# Altium footprint library new-castom-case.PcbLib: 4 footprints
Each footprint in its own frame and in the unit in brackets; x right, y up, seen from the top. Pads: shape width x height; smd on the part's side, far side on the other; paste and mask are expansions set on the pad; w line width, h text height; cw(c..) or ccw(c..) is an arc to the next point about the centre after c.
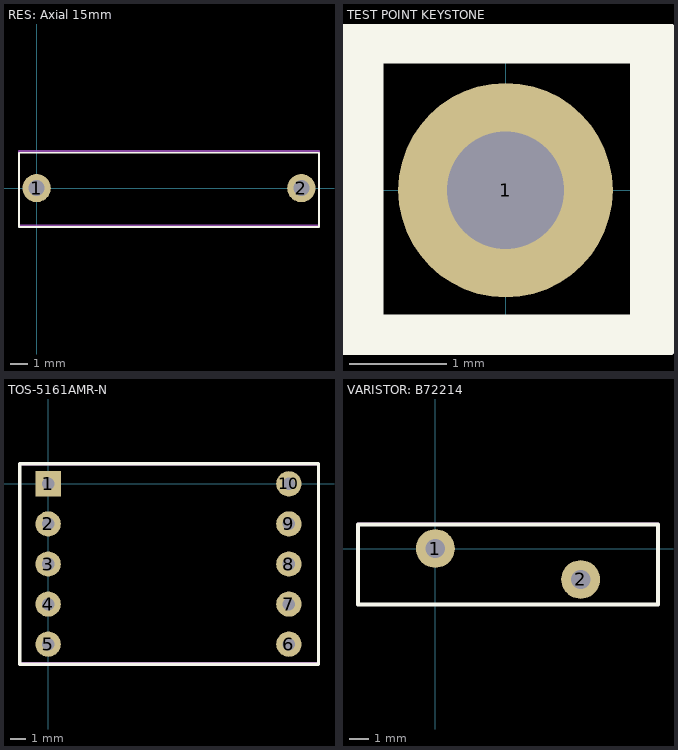
[diagram p0: the footprints below, top view; thin cyan lines are the x and y axes]

## RES: Axial 15mm [mm]
pads (2):
  round 1.6 hole 0.9: 1(0,0) 2(15,0)
Top Overlay:
  lines w0.1: -1,-2.2 -1,2 16,2 16,-2.2 -1,-2.2
Mechanical 1:
  lines w0.1: -1,-2.1 -1,2.1 16,2.1 16,-2.1 -1,-2.1
Mechanical 15:
  lines w0.1: -1,-2.1 -1,2.1 16,2.1 16,-2.1 -1,-2.1
3D body "User Library-RES0_5L15.STEP": height 4.7, standoff -2.5, extent -0.3,-2.1 15.3,2.1

## TEST POINT KEYSTONE [mm]
pads (1):
  round 2.2 hole 1.2: 1(0,0)
Top Overlay:
  lines w0.5: -1.5,-1.525 1.525,-1.525 1.525,1.55 -1.5,1.55 -1.5,-1.525
Mechanical 1:
  lines w0.1: -1.475,-1.525 -1.475,1.55 1.55,1.55 1.55,-1.525 -1.475,-1.525
Mechanical 15:
  lines w0.1: -1.5,-1.4 1.525,-1.4 1.525,1.55 -1.5,1.55 -1.5,-1.4
3D body "User Library-TEST POINT BLU Keystone 5117.step": height 4.99, standoff -2.97, extent -1.274,-1.257 1.266,1.283

## TOS-5161AMR-N [mm]
pads (10):
  rect 1.6x1.6 hole 0.8: 1(0,0)
  round 1.6 hole 0.8: 2(0,-2.54) 3(0,-5.08) 4(0,-7.62) 5(0,-10.16) 6(15.24,-10.16) 7(15.24,-7.62) 8(15.24,-5.08) 9(15.24,-2.54) 10(15.24,0)
Top Overlay:
  lines w0.2: 17.1,1.27 -1.8,1.27 -1.8,-11.43 17.125,-11.43 17.125,1.27
Mechanical 1:
  lines w0.1: -1.85,-11.35 17.15,-11.35 17.15,1.225 -1.85,1.2 -1.85,-11.35
Mechanical 15:
  lines w0.1: -1.85,-11.35 -1.85,1.2 17.15,1.2 17.15,-11.35 -1.85,-11.35
3D body "User Library-TOS-5161BMR-N, red 12mm.step": height 8, standoff -4, extent -1.84,-11.365 17.14,1.215

## VARISTOR: B72214 [mm]
pads (2):
  round 2 hole 1: 1(0,0) 2(7.5,-1.6)
Top Overlay:
  lines w0.2: -4,-2.9 11.5,-2.9 11.5,1.25 -4,1.25 -4,-2.9
Mechanical 1:
  lines w0.1: -4,-2.9 -4,1.3 11.5,1.3 11.5,-2.9 -4,-2.9
Mechanical 15:
  lines w0.1: -4,-2.9 -4,1.25 11.5,1.25 11.5,-2.9 -4,-2.9
3D body "User Library-B72214S0111K101.STEP": height 18.75, standoff -2, extent -4,-2.925 11.5,1.275